# EAGLE library part TEXAS-INSTRUMENTS_BY_ELEMENT14_BATCH_1_TPS61016DGS (library chrono)
1-CELL AND 2-CELL BOOST CONVERTERS
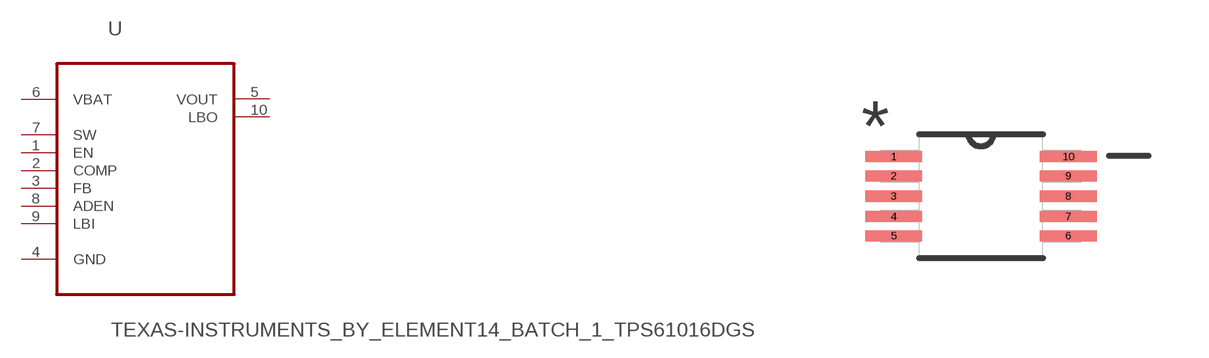
[diagram p4: symbol with the pads of TEXAS-INSTRUMENTS_BY_ELEMENT14_BATCH_1_SOP50P490X110-10N; footprint TEXAS-INSTRUMENTS_BY_ELEMENT14_BATCH_1_SOP50P490X110-10N]

Designator prefix U

## TEXAS-INSTRUMENTS_BY_ELEMENT14_BATCH_1_TPS61016DGS (MPN: TPS61016DGS; OC_FARNELL: 8457816; OC_NEWARK: 77C0668; PACKAGE: MSOP-10; SUPPLIER: Texas Instruments)  [TEXAS-INSTRUMENTS_BY_ELEMENT14_BATCH_1_SOP50P490X110-10N]
1  EN  in
2  COMP  in
3  FB  in
4  GND  pas
5  VOUT  out
6  VBAT  pwr
7  SW  in
8  ADEN  in
9  LBI  in
10  LBO  out

## Footprint TEXAS-INSTRUMENTS_BY_ELEMENT14_BATCH_1_SOP50P490X110-10N (pad centres in mm)
smd 1.422 x 0.279: 1 -2.184,0.991; 2 -2.184,0.508; 3 -2.184,0; 4 -2.184,-0.508; 5 -2.184,-0.991; 6 2.184,-0.991; 7 2.184,-0.508; 8 2.184,0; 9 2.184,0.508; 10 2.184,0.991